# Altium schematic symbol library TMC5072-LA.Schlib: 1 symbol
Pins are listed as number, name and electrical type; pins without a type are passive.

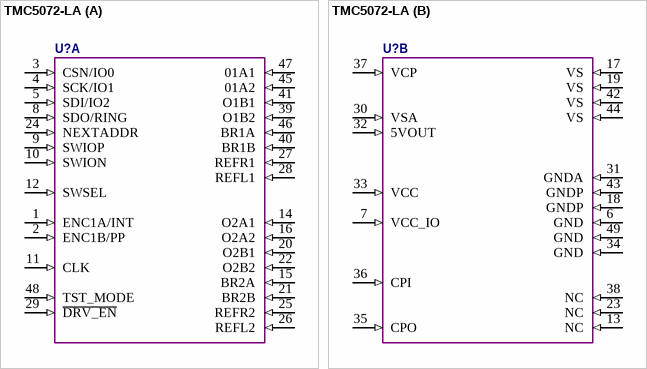
[diagram p0: symbol TMC5072-LA]

## TMC5072-LA
designator U?  (value not drawn)
part A pins: 1 ENC1A/INT (in), 2 ENC1B/PP (in), 3 CSN/IO0 (in), 4 SCK/IO1 (in), 5 SDI/IO2 (in), 8 SDO/RING (in), 9 SWIOP (in), 10 SWION (in), 11 CLK (in), 12 SWSEL (in), 14 O2A1 (in), 15 BR2A (in), 16 O2A2 (in), 20 O2B1 (in), 21 BR2B (in), 22 O2B2 (in), 24 NEXTADDR (in), 25 REFR2 (in), 26 REFL2 (in), 27 REFR1 (in), 28 REFL1 (in), 29 ~{DRV_EN} (in), 39 O1B2 (in), 40 BR1B (in), 41 O1B1 (in), 45 01A2 (in), 46 BR1A (in), 47 01A1 (in), 48 TST_MODE (in)
part B pins: 6 GND (in), 7 VCC_IO (in), 13 NC (in), 17 VS (in), 18 GNDP (in), 19 VS (in), 23 NC (in), 30 VSA (in), 31 GNDA (in), 32 5VOUT (in), 33 VCC (in), 34 GND (in), 35 CPO (in), 36 CPI (in), 37 VCP (in), 38 NC (in), 42 VS (in), 43 GNDP (in), 44 VS (in), 49 GND (in)